# EAGLE library part AS-ITM-00414 (library tinycircuits)
WiFi Modules SMD Module, ESP8266EX, 16Mbits SPI flash
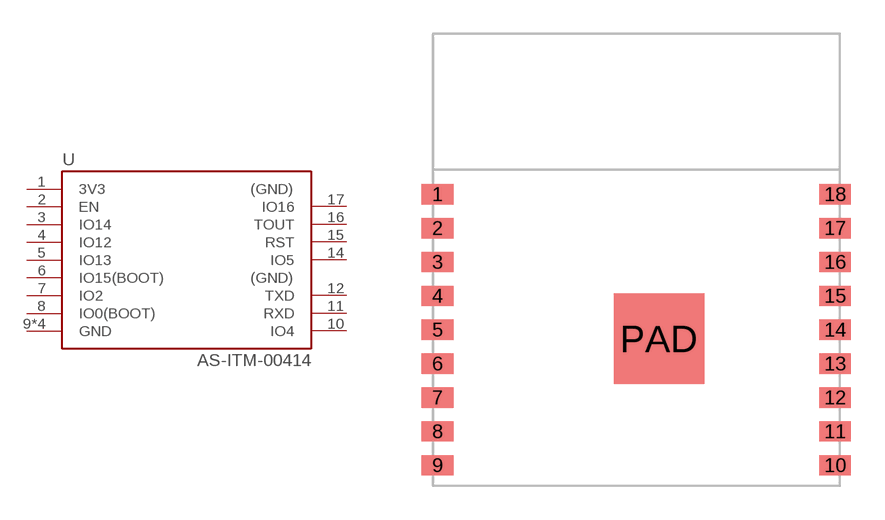
[diagram p172: symbol with the pads of ESP-WROOM-02; footprint ESP-WROOM-02]

Designator prefix U

## AS-ITM-00414 (PARTNO: AS-ITM-00414; VALUE: ESP-WROOM-02)  [ESP-WROOM-02]
1  3V3
2  EN
3  IO14
4  IO12
5  IO13
6  IO15(BOOT)
7  IO2
8  IO0(BOOT)
9  GND
10  IO4
11  RXD
12  TXD
13  GND
14  IO5
15  RST
16  TOUT
17  IO16
18  GND
PAD  GND

## Footprint ESP-WROOM-02 (pad centres in mm)
smd 1.4 x 0.9: 1 -8.8,2.9; 2 -8.8,1.4; 3 -8.8,-0.1; 4 -8.8,-1.6; 5 -8.8,-3.1; 6 -8.8,-4.6; 7 -8.8,-6.1; 8 -8.8,-7.6; 9 -8.8,-9.1; 10 8.8,-9.1; 11 8.8,-7.6; 12 8.8,-6.1; 13 8.8,-4.6; 14 8.8,-3.1; 15 8.8,-1.6; 16 8.8,-0.1; 17 8.8,1.4; 18 8.8,2.9
smd 4 x 4: PAD 1,-3.5